# EAGLE library part XRT5683AID-F (library Exar_By_element14_Batch_1)
PCM Line Interface Chip
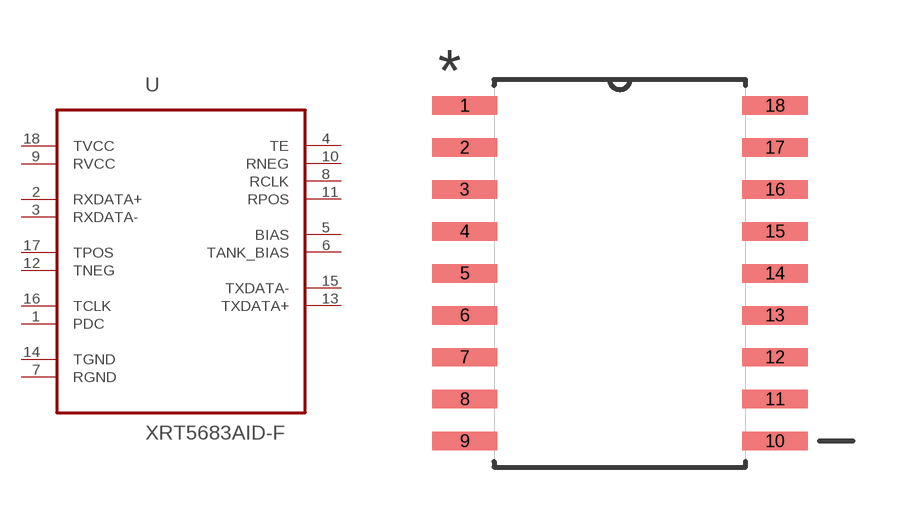
[diagram p105: symbol with the pads of SOIC127P1032X265-18N; footprint SOIC127P1032X265-18N]

Designator prefix U

## XRT5683AID-F (MPN: XRT5683AID-F; OC_FARNELL: 1798690; OC_NEWARK: 24R1672; PACKAGE: SOIC-18; SUPPLIER: Exar)  [SOIC127P1032X265-18N]
1  PDC  pas
2  RXDATA+  in
3  RXDATA-  in
4  TE  out
5  BIAS  out
6  TANK_BIAS  out
7  RGND  pas
8  RCLK  out
9  RVCC  pwr
10  RNEG  out
11  RPOS  out
12  TNEG  in
13  TXDATA+  out
14  TGND  pas
15  TXDATA-  out
16  TCLK  in
17  TPOS  in
18  TVCC  pwr

## Footprint SOIC127P1032X265-18N (pad centres in mm)
smd 1.981 x 0.559: 1 -4.699,5.08; 2 -4.699,3.81; 3 -4.699,2.54; 4 -4.699,1.27; 5 -4.699,0; 6 -4.699,-1.27; 7 -4.699,-2.54; 8 -4.699,-3.81; 9 -4.699,-5.08; 10 4.699,-5.08; 11 4.699,-3.81; 12 4.699,-2.54; 13 4.699,-1.27; 14 4.699,0; 15 4.699,1.27; 16 4.699,2.54; 17 4.699,3.81; 18 4.699,5.08